# Altium footprint library Optocouplers.PcbLib: 5 footprints
Each footprint in its own frame and in the unit in brackets; x right, y up, seen from the top. Pads: shape width x height; smd on the part's side, far side on the other; paste and mask are expansions set on the pad; w line width, h text height; cw(c..) or ccw(c..) is an arc to the next point about the centre after c.
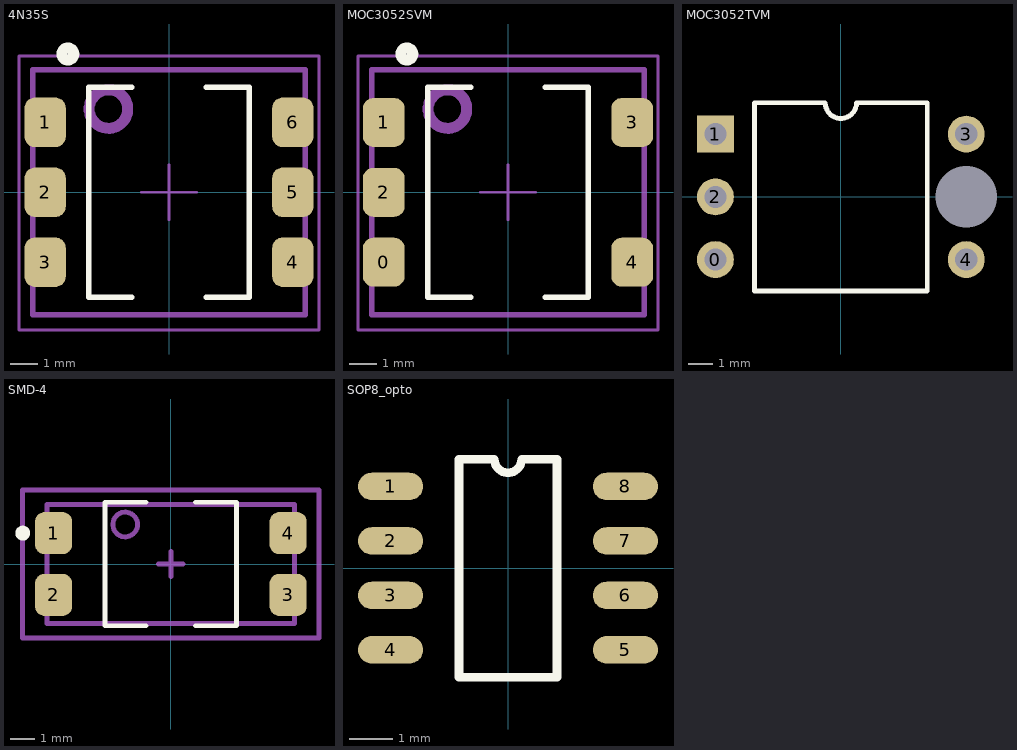
[diagram p0: the footprints below, top view; thin cyan lines are the x and y axes]

## 4N35S [mm] "4N35 Series Surface Mount"
pads (6):
  rrect50% 1.5x1.8 smd: 1(-4.5,2.54) 2(-4.5,0) 3(-4.5,-2.54) 4(4.5,-2.54) 5(4.5,0) 6(4.5,2.54)
Top Overlay:
  circle w0.4: c-3.675,5.025 r0.215
  lines w0.2: -1.35,-3.81 -2.918,-3.81 -2.918,3.81 -1.35,3.81 ; 1.35,-3.81 2.918,-3.81 2.918,3.81 1.35,3.81
3D Top:
  circle w0.4: c-2.2,3.025 r0.7
  lines w0.2: -4.95,-4.445 4.95,-4.445 4.95,4.445 -4.95,4.445 -4.95,-4.445
Courtyard Top:
  lines w0.1: -1,0 1,0 ; 0,-1 0,1 ; -5.45,-5 -5.45,4.95 5.45,4.95 5.45,-5 -5.45,-5
3D body: height 5.93, standoff 0, extent -4.95,-4.445 4.95,4.445

## MOC3052SVM [mm]
pads (5):
  rrect50% 1.52x1.78 smd: 0(-4.513,-2.54) 1(-4.513,2.54) 2(-4.513,0) 3(4.513,2.54) 4(4.513,-2.54)
Top Overlay:
  circle w0.4: c-3.675,5.025 r0.215
  lines w0.2: -1.35,-3.81 -2.918,-3.81 -2.918,3.81 -1.35,3.81 ; 1.35,-3.81 2.918,-3.81 2.918,3.81 1.35,3.81
3D Top:
  circle w0.4: c-2.2,3.025 r0.7
  lines w0.2: -4.95,-4.445 -4.95,4.445 4.95,4.445 4.95,-4.445 -4.95,-4.445
Courtyard Top:
  lines w0.1: -1,0 1,0 ; 0,-1 0,1 ; -5.45,-5 5.45,-5 5.45,4.95 -5.45,4.95 -5.45,-5
3D body: height 5.93, standoff 0, extent -4.95,-4.445 4.95,4.445

## MOC3052TVM [mm]
pads (6):
  round 1.5 hole 0.9: 0(-5.1,-2.55) 2(-5.1,0) 3(5.1,2.55) 4(5.1,-2.55)
  round 0 hole 2.5: 0(5.1,0)
  rect 1.5x1.5 hole 0.9: 1(-5.1,2.55)
Top Overlay:
  lines w0.2: -3.515,-3.825 -3.515,3.825 -0.637,3.825 ccw(c0,3.825) 0.637,3.825 3.515,3.825 3.515,-3.825 -3.515,-3.825
3D body: height 4.26, standoff -3.42, extent -5.378,-4.445 5.379,4.445

## SMD-4 [mm]
height 4
pads (4):
  rrect50% 1.5x1.7 smd: 1(-4.75,1.25) 2(-4.75,-1.25) 3(4.75,-1.25) 4(4.75,1.25)
Top Overlay:
  circle w0.3: c-6,1.25 r0.15
  lines w0.2: -1,-2.5 -2.665,-2.5 -2.665,2.5 -1,2.5 ; 1,-2.5 2.665,-2.5 2.665,2.5 1,2.5
3D Top:
  circle w0.2: c-1.85,1.6 r0.5
  lines w0.2: -5.015,-2.416 -5.015,2.416 5.015,2.416 5.015,-2.416 -5.015,-2.416
Courtyard Top:
  lines w0.2: -0.5,0 0.5,0 ; 0,-0.5 0,0.5 ; -6,-3 -6,3 6,3 6,-3 -6,-3
3D body: height 4.45, standoff 0.55, extent -5.015,-2.416 5.015,2.416

## SOP8_opto [mm] "ELD20X, ELD21X"
pads (8):
  oval 1.52x0.64 smd: 1(-2.738,1.905) 2(-2.738,0.635) 3(-2.738,-0.635) 4(-2.738,-1.905) 5(2.738,-1.905) 6(2.738,-0.635) 7(2.738,0.635) 8(2.738,1.905)
Top Overlay:
  lines w0.2: -1.143,-2.54 1.143,-2.54 1.143,2.54 0.318,2.54 cw(c0,2.54) -0.318,2.54 -1.143,2.54 -1.143,-2.54
3D body: height 3.33, standoff -0.4, extent -3.003,-2.5 3.003,2.5